# Altium footprint library VF10.PcbLib: 58 footprints (part 2 of 4)
Each footprint in its own frame and in the unit in brackets; x right, y up, seen from the top. Pads: shape width x height; smd on the part's side, far side on the other; paste and mask are expansions set on the pad; w line width, h text height; cw(c..) or ccw(c..) is an arc to the next point about the centre after c.
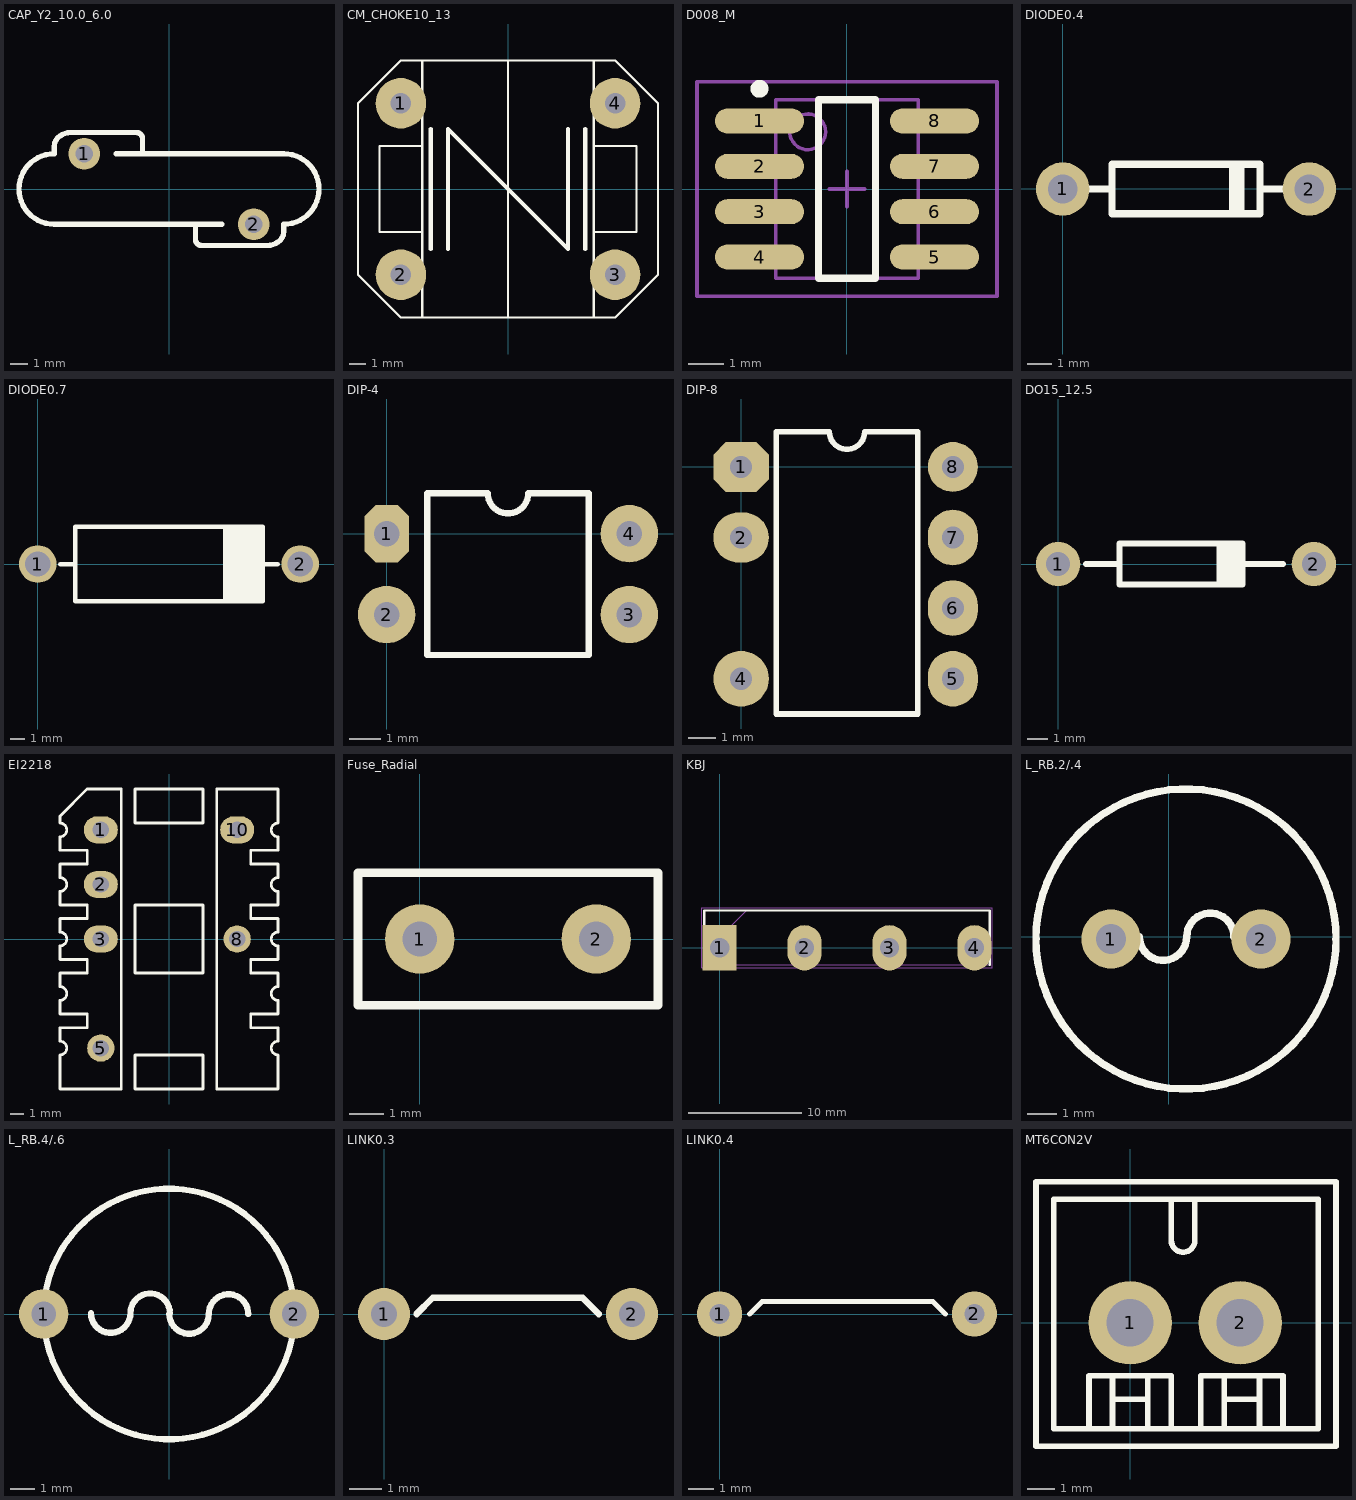
[diagram p1: the footprints below, top view; thin cyan lines are the x and y axes]

## CAP_Y2_10.0_6.0 [mm]
pads (2):
  round 1.8 hole 1: 1(-4.8,2) 2(4.8,-2)
Top Overlay:
  lines w0.3: -3,2 6.5,2 cw(c6.5,0) 6.5,-2 6.5,-2.417 cw(c5.817,-2.417) 6.3,-2.9 cw(c5.576,-2.176) 5.576,-3.2 1.841,-3.2 cw(c1.841,-2.859) 1.6,-3.1 cw(c1.841,-2.859) 1.5,-2.859 1.5,-2 ; -1.5,2 -1.5,2.859 ccw(c-1.841,2.859) -1.6,3.1 ccw(c-1.841,2.859) -1.841,3.2 -5.576,3.2 ccw(c-5.576,2.176) -6.3,2.9 ccw(c-5.817,2.417) -6.5,2.417 -6.5,2 ccw(c-6.5,0) -6.5,-2 3,-2
3D body "User Library-440LD68-R.STEP": height 23.5, standoff -26.8, extent -9.15,-3 9.15,3

## CM_CHOKE10_13 [mm]
pads (4):
  round 3 hole 1.2: 1(-6.35,5.08) 2(-6.35,-5.08) 3(6.35,-5.08) 4(6.35,5.08)
Top Overlay:
  lines w0.127: -5.08,-7.62 -5.08,7.62 ; -5.08,-2.54 -7.62,-2.54 -7.62,2.54 -5.08,2.54 ; 0,-7.62 0,7.62 ; 5.08,-7.62 5.08,7.62 ; 5.08,-2.54 7.62,-2.54 7.62,2.54 5.08,2.54 ; -8.89,-5.08 -8.89,5.08 -6.35,7.62 6.35,7.62 8.89,5.08 8.89,-5.08 6.35,-7.62 -6.35,-7.62 -8.89,-5.08
  lines w0.254: -4.572,-3.556 -4.572,3.556 ; -3.556,-3.556 -3.556,3.556 3.556,-3.556 3.556,3.556 ; 4.572,-3.556 4.572,3.556
3D body "KEMET - SS11V-R05350-CH_v1.step": height 18.05, standoff -3.5, extent -11,-7.25 11,7.25

## D008_M [mm] "SOIC, 8-Leads, Body 4.9x3.9mm, Pitch 1.27mm, IPC Low Density"
height 1.75
pads (8):
  oval 2.5x0.7 smd: 1(-2.45,1.905) 2(-2.45,0.635) 3(-2.45,-0.635) 4(-2.45,-1.905) 5(2.45,-1.905) 6(2.45,-0.635) 7(2.45,0.635) 8(2.45,1.905)
Top Overlay:
  circle w0.25: c-2.45,2.805 r0.125
  lines w0.2: -0.8,-2.5 0.8,-2.5 0.8,2.5 -0.8,2.5 -0.8,-2.5
Mechanical 13:
  circle w0.1: c-1.1,1.6 r0.5
  lines w0.1: -2,-2.5 2,-2.5 2,2.5 -2,2.5 -2,-2.5
Mechanical 15:
  lines w0.1: -0.5,0 0.5,0 ; 0,-0.5 0,0.5 ; -4.2,-3 4.2,-3 4.2,3 -4.2,3 -4.2,-3
3D body: height 1.75, standoff 0, extent -2,-2.5 2,2.5

## DIODE0.4 [mm]
pads (2):
  round 2.2 hole 1.2: 1(0,0) 2(10.16,0)
Top Overlay:
  rectangle: 6.858,-1.016 7.239,1.016
  rectangle: 7.112,-1.016 7.366,1.016
  rectangle: 7.239,-1.016 7.493,1.016
  lines w0.305: 0,0 2.032,0 ; 8.128,0 10.16,0 ; 2.032,-1.016 8.128,-1.016 8.128,1.016 2.032,1.016 2.032,-1.016

## DIODE0.7 [mm]
pads (2):
  round 2.54 hole 1.7: 1(0,0) 2(17.78,0)
Top Overlay:
  rectangle: 12.7,-2.4 15.1,2.4
  lines w0.305: 1.524,0 2.54,0 ; 12.7,-2.54 12.7,2.54 ; 15.24,0 16.256,0 ; 2.54,-2.54 15.24,-2.54 15.24,2.54 2.54,2.54 2.54,-2.54
3D body "User Library-DO-201ADDO-27.STEP": height 7.9, standoff -1.72, extent -1.34,-2.8 18.8,2.84

## DIP-4 [mm]
pads (4):
  oct 1.4x1.8 hole 0.8: 1(0,0)
  round 1.8 hole 0.8: 2(0,-2.54) 3(7.62,-2.54) 4(7.62,0)
Top Overlay:
  lines w0.2: 1.27,-3.81 6.35,-3.81 6.35,1.27 4.445,1.27 cw(c3.81,1.27) 3.175,1.27 1.27,1.27 1.27,-3.81
3D body "CircuitWorks-DIP4.STEP": height 4.31, standoff -3.28, extent -0.19,-4.064 7.81,1.476

## DIP-8 [mm]
pads (7):
  oct 2x1.8 hole 0.8: 1(0,0)
  oval 2x1.8 hole 0.8: 2(0,-2.54)
  round 2 hole 0.8: 4(0,-7.62)
  oval 1.8x2 hole 0.8: 5(7.62,-7.62) 6(7.62,-5.08) 7(7.62,-2.54)
  round 1.8 hole 0.8: 8(7.62,0)
Top Overlay:
  lines w0.2: 1.27,-8.89 6.35,-8.89 6.35,1.27 4.445,1.27 cw(c3.81,1.27) 3.175,1.27 1.27,1.27 1.27,-8.89

## DO15_12.5 [mm]
pads (2):
  round 2.2 hole 1.2: 1(0,0) 2(12.7,0)
Top Overlay:
  rectangle: 8.255,-1.016 9.017,1.016
  rectangle: 8.128,-1.016 8.382,1.016
  rectangle: 7.874,-1.016 8.255,1.016
  lines w0.305: 1.397,0 2.921,0 ; 9.144,0 11.176,0 ; 3.048,-1.016 3.048,1.016 9.144,1.016 9.144,-1.016 3.048,-1.016

## EI2218 [mm]
pads (6):
  oval 2.5x2 hole 1.2: 1(-5,8) 2(-5,4) 3(-5,0) 10(5,8)
  round 2 hole 1.2: 5(-5,-8) 8(5,0)
Top Overlay:
  lines w0.2: -8,-11 -8,-8.5 ccw(c-8,-8) -8,-7.5 -8,-6.5 -6,-6.5 -6,-5.5 -8,-5.5 -8,-4.5 ccw(c-8,-4) -8,-3.5 -8,-2.5 -6,-2.5 -6,-1.5 -8,-1.5 -8,-0.5 ccw(c-8,0) -8,0.5 -8,1.5 -6,1.5 -6,2.5 -8,2.5 -8,3.5 ccw(c-8,4) -8,4.5 -8,5.5 -6,5.5 -6,6.5 -8,6.5 -8,7.5 ccw(c-8,8) -8,8.5 -8,9 -6,11 -3.5,11 -3.5,-11 -8,-11 ; -2.5,-11 -2.5,-8.5 2.5,-8.5 2.5,-11 -2.5,-11 ; -2.5,-2.5 -2.5,2.5 2.5,2.5 2.5,-2.5 -2.5,-2.5 ; -2.5,8.5 2.5,8.5 2.5,11 -2.5,11 -2.5,8.5 ; 3.5,-11 3.5,11 8,11 8,8.5 ccw(c8,8) 8,7.5 8,6.5 6,6.5 6,5.5 8,5.5 8,4.5 ccw(c8,4) 8,3.5 8,2.5 6,2.5 6,1.5 8,1.5 8,0.5 ccw(c8,0) 8,-0.5 8,-1.5 6,-1.5 6,-2.5 8,-2.5 8,-3.5 ccw(c8,-4) 8,-4.5 8,-5.5 6,-5.5 6,-6.5 8,-6.5 8,-7.5 ccw(c8,-8) 8,-8.5 8,-11 3.5,-11

## Fuse_Radial [mm]
pads (2):
  round 2 hole 1: 1(0,0) 2(5.08,0)
Top Overlay:
  lines w0.254: -1.778,-1.905 6.858,-1.905 6.858,1.905 -1.778,1.905 -1.778,-1.905
3D body "Fuse 508 v1.step": height 3.5, standoff -8.3, extent -1.16,-2 6.24,2

## KBJ [mm]
pads (4):
  rect 3x4 hole 1.7: 1(0,0)
  oval 3x4 hole 1.7: 2(7.5,0) 3(15,0) 4(22.5,0)
Top Overlay:
  lines w0.2: -1.35,0 -1.35,3.3 23.85,3.3 23.85,-1.5
Mechanical 13:
  lines w0.1: -1.35,-0.45 2.4,3.3 ; -1.35,-1.5 23.85,-1.5 23.85,3.3 -1.35,3.3 -1.35,-1.5
Mechanical 15:
  lines w0.05: -1.6,-1.75 24.1,-1.75 24.1,3.55 -1.6,3.55 -1.6,-1.75
3D body "User Library-KBJ.step": height 18.5, standoff -14, extent -1.324,-2.3 23.676,2.3

## L_RB.2/.4 [mm]
pads (2):
  round 2 hole 1: 1(-1.964,-0.076) 2(3.116,-0.076)
Top Overlay:
  circle w0.254: c0.576,-0.076 r5.08
  lines w0.254: -1,0 ccw(c-0.2,0) 0.6,0 cw(c1.4,0) 2.2,0

## L_RB.4/.6 [mm]
pads (2):
  round 2 hole 1: 1(-5.08,0) 2(5.08,0)
Top Overlay:
  circle w0.254: c0,0 r5.08
  lines w0.254: -3.164,0.033 ccw(c-2.364,0.033) -1.564,0.033 cw(c-0.764,0.033) 0.036,0.033 ; 0.013,0 ccw(c0.813,0) 1.613,0 cw(c2.413,0) 3.213,0

## LINK0.3 [mm]
pads (2):
  round 1.6 hole 0.8: 1(0,0) 2(7.62,0)
Top Overlay:
  lines w0.2: 1,0 1.5,0.5 6.1,0.5 6.6,0

## LINK0.4 [mm]
pads (2):
  round 1.8 hole 0.8: 1(0,0) 2(10.16,0)
Top Overlay:
  lines w0.2: 1.2,0 1.7,0.5 8.5,0.5 9,0

## MT6CON2V [mm]
pads (2):
  round 3 hole 1.7: 1(0,0) 2(3.958,0)
Top Overlay:
  lines w0.203: -1.482,-3.81 -1.482,-1.905 1.482,-1.905 1.482,-3.81 ; -0.635,-3.81 -0.635,-1.905 ; -0.635,-2.752 0.635,-2.752 ; 0.635,-3.81 0.635,-1.905 ; 1.482,4.445 1.482,2.963 ccw(c1.905,2.963) 2.328,2.963 2.328,4.445 ; 2.54,-3.81 2.54,-1.905 5.503,-1.905 5.503,-3.81 ; 3.387,-3.81 3.387,-1.905 ; 3.387,-2.752 4.657,-2.752 ; 3.81,5.08 4.657,5.08 ; 4.657,-3.81 4.657,-1.905 ; -3.387,-4.445 -3.387,5.08 7.408,5.08 7.408,-4.445 -3.387,-4.445 ; -2.752,-3.81 -2.752,4.445 6.773,4.445 6.773,-3.81 -2.752,-3.81